# Altium footprint library 6L2MM.PcbLib: 1 footprints
Each footprint in its own frame and in the unit in brackets; x right, y up, seen from the top. Pads: shape width x height; smd on the part's side, far side on the other; paste and mask are expansions set on the pad; w line width, h text height; cw(c..) or ccw(c..) is an arc to the next point about the centre after c.
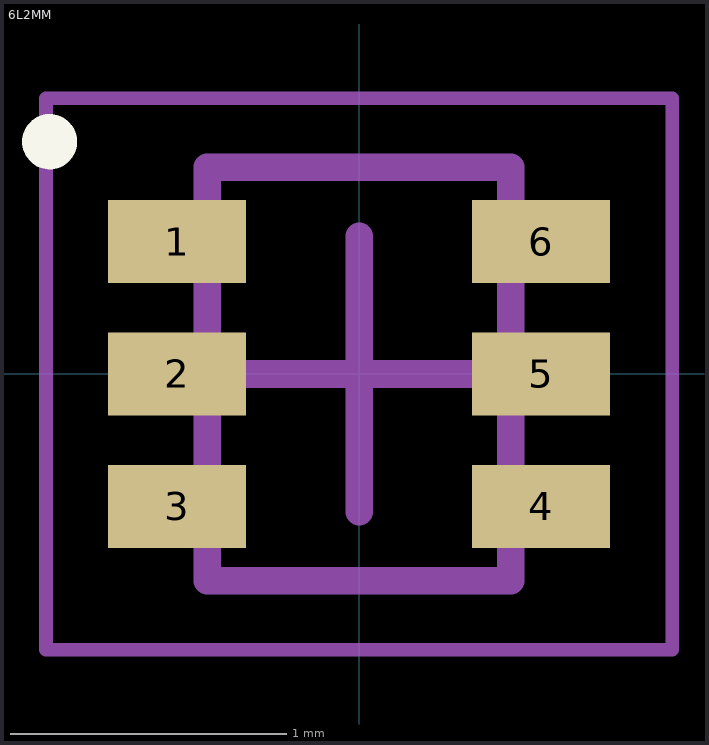
[diagram p0: the footprint, top view; thin cyan lines are the x and y axes]

## 6L2MM [mm] "6-pin lead-less mini mold package"
height 0.55
pads (6):
  rect 0.5x0.3 smd: 1(-0.66,0.48) 2(-0.66,0) 3(-0.66,-0.48) 4(0.66,-0.48) 5(0.66,0) 6(0.66,0.48)
Top Overlay:
  circle w0.1: c-1.122,0.842 r0.05
Mechanical 13:
  lines w0.1: -0.55,-0.75 0.55,-0.75 0.55,0.75 -0.55,0.75 -0.55,-0.75
Mechanical 15:
  lines w0.05: -1.135,-1 1.135,-1 1.135,1 -1.135,1 -1.135,-1
  lines w0.1: -0.5,0 0.5,0 ; 0,-0.5 0,0.5
Mechanical 17:
  text "'.Designator'" at -0.381,1.016 h0.61
Mechanical 19:
  text "'.Comment'" at -0.381,1.016 h0.61
3D body "6L2MM.step": height 0.55, standoff 0, extent -0.65,-0.748 0.65,0.748